# Altium footprint library SDC-LE-01.PcbLib: 1 footprints
Each footprint in its own frame and in the unit in brackets; x right, y up, seen from the top. Pads: shape width x height; smd on the part's side, far side on the other; paste and mask are expansions set on the pad; w line width, h text height; cw(c..) or ccw(c..) is an arc to the next point about the centre after c.
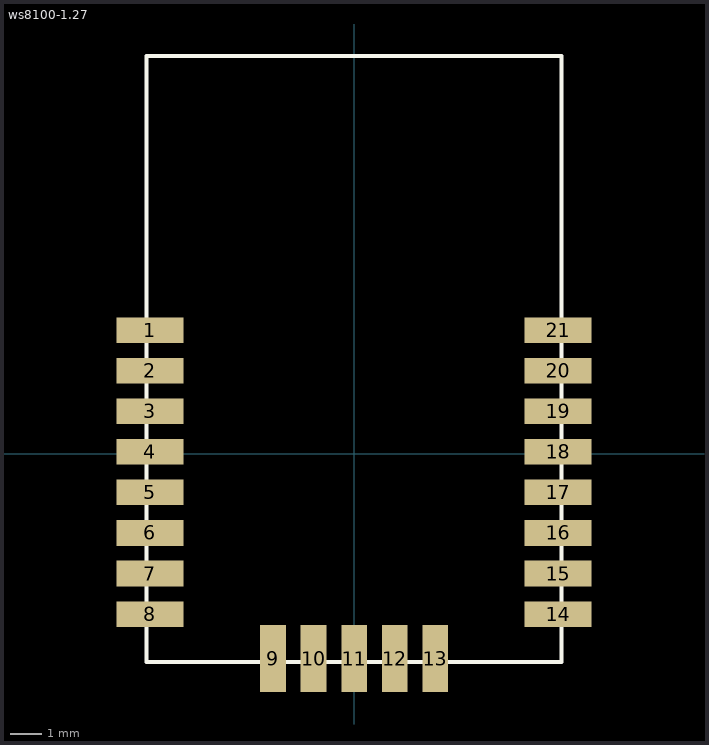
[diagram p0: the footprint, top view; thin cyan lines are the x and y axes]

## ws8100-1.27 [mm]
pads (21):
  rect 2.1x0.8 smd paste+0 mask+0.051: 1(-6.4,3.867) 2(-6.4,2.597) 3(-6.4,1.327) 4(-6.4,0.057) 5(-6.4,-1.213) 6(-6.4,-2.483) 7(-6.4,-3.753) 8(-6.4,-5.023) 14(6.4,-5.023) 15(6.4,-3.753) 16(6.4,-2.483) 17(6.4,-1.213) 18(6.4,0.057) 19(6.4,1.327) 20(6.4,2.597) 21(6.4,3.867)
  rect 0.8x2.1 smd paste+0 mask+0.051: 9(-2.54,-6.424) 10(-1.27,-6.424) 11(0,-6.424) 12(1.27,-6.424) 13(2.54,-6.424)
Top Overlay:
  lines w0.127: -6.5,-6.524 -2.599,-6.524 6.505,-6.524 6.505,12.476 -6.5,12.476 -6.5,-6.524